# EAGLE library part SD01-AP20324 (library con-atom-sd)
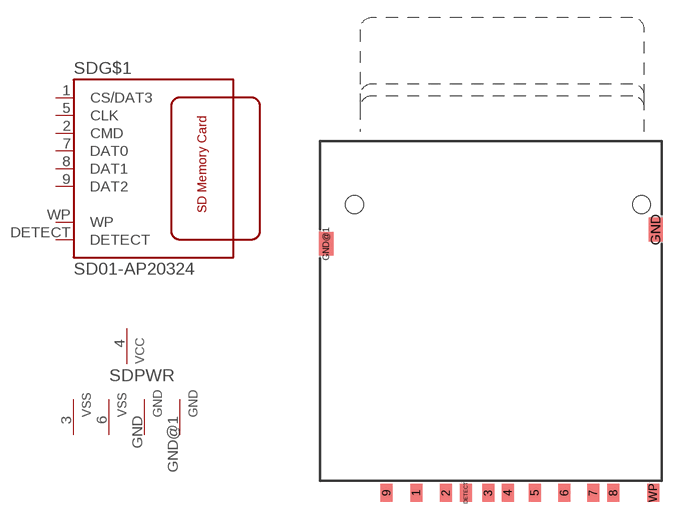
[diagram p0: symbol with the pads of SD01-AP20324; footprint SD01-AP20324]

Designator prefix SD; gates G$1=SD01-AP20324 PWR=PWR2VSS2GND

## SD01-AP20324  [SD01-AP20324]
1  G$1:CS/DAT3  pas
2  G$1:CMD  pas
3  PWR:VSS  pwr
4  PWR:3V3  pwr
5  G$1:CLK  pas
6  PWR:VSS  pwr
7  G$1:DAT0  pas
8  G$1:DAT1  pas
9  G$1:DAT2  pas
DETECT  G$1:DETECT  pas
GND  PWR:GND  pwr
GND@1  PWR:GND  pwr
WP  G$1:WP  pas

## Footprint SD01-AP20324 (pad centres in mm)
smd 1 x 1.5: 1 -7.535,-13.97; 2 -5.035,-13.97; 3 -1.46,-13.97; 4 0.19,-13.97; 5 2.465,-13.97; 6 4.965,-13.97; 7 7.395,-13.97; 8 9.095,-13.97; 9 -10.035,-13.97; DETECT -3.335,-13.97; WP 12.445,-13.97
smd 1.2 x 2: GND 12.665,8.24; GND@1 -15.135,7.04
hole 1.5 at -12.735,10.34
hole 1.5 at 11.465,10.34